# Altium schematic symbol library zener_5v6.SchLib: 1 symbol
Pins are listed as number, name and electrical type; pins without a type are passive.

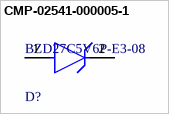
[diagram p0: symbol CMP-02541-000005-1]

## CMP-02541-000005-1
designator D?, comment BZD27C5V6P-E3-08
DIODE ZENER 5.6V 800MW DO219AB; Manufacturer: Vishay; Max Reverse Leakage Current: 10uA; Max Junction Temp: +175°C; Zener Impedance: 2Ω; Reverse Voltage: 2V; Forward Current: 0.2A; Max Zener Voltage: 6V; Standoff Height: 0mm; Automotive Grade: NA; Digikey Description: DIODE ZENER 5.6V 800MW DO219AB; Package: S8-V-3915.01-001; RoHS: TRUE; Octopart: https://octopart.com/bzd27c5v6p-e3-08-vishay-30317385; Nom Zener Voltage: 5.6V; Temperature Range Low: -65°C; ComponentLink2Description: Datasheet; ComponentLink2URL: http://www.vishay.com/docs/85153/bzd27series.pdf; Lead Free: Yes; Power Dissipation: 800mW; Manufacturer Part Number: BZD27C5V6P-E3-08; Category: Diode; Height: 1.08mm; Mouser Description: Diode Zener Single 5.6V 800mW 2-Pin DO-219AB T/R; Temperature: -65°C to +175°C; Device Class L2: Diodes; Device Class L3: Zener Diodes; Temperature Range High: +175°C; Automotive: No; Device Class L1: Discrete Semiconductors
footprint FP-S8-V-3915_01-001-MFG
pins: 1 A, 2 C